# Altium footprint library SS8050-G.PcbLib: 3 footprints
Each footprint in its own frame and in the unit in brackets; x right, y up, seen from the top. Pads: shape width x height; smd on the part's side, far side on the other; paste and mask are expansions set on the pad; w line width, h text height; cw(c..) or ccw(c..) is an arc to the next point about the centre after c.
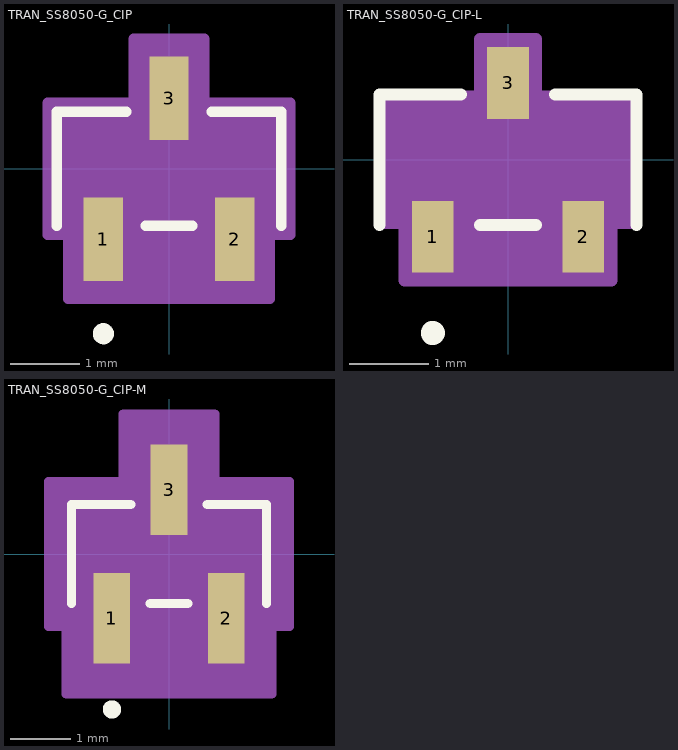
[diagram p0: the footprints below, top view; thin cyan lines are the x and y axes]

## TRAN_SS8050-G_CIP [mm]
pads (3):
  rect 0.568x1.208 smd paste+0 mask+0: 1(-0.95,-1.021) 2(0.95,-1.021) 3(0,1.021)
Top Overlay:
  circle w0.152: c-0.95,-2.387 r0.076
  lines w0.152: -1.626,-0.826 -1.626,0.826 -0.617,0.826 ; -0.333,-0.826 0.333,-0.826 ; 0.617,0.826 1.626,0.826 1.626,-0.826
  text ".Designator" at -3.492,-0.635 h1.27
Mechanical 13:
  circle w0.025: c-0.95,-0.445 r0.076
  lines w0.025: -1.499,-0.699 1.499,-0.699 1.499,0.699 -1.499,0.699 -1.499,-0.699 ; -1.204,-1.275 -1.204,-0.699 -0.696,-0.699 -0.696,-1.275 -1.204,-1.275 ; -0.254,0.699 0.254,0.699 0.254,1.275 -0.254,1.275 -0.254,0.699 ; 0.696,-1.275 0.696,-0.699 1.204,-0.699 1.204,-1.275 0.696,-1.275
  text ".Designator" at -3.492,-0.635 h1.27
Mechanical 15:
  region: -1.753,-0.953 -1.753,0.953 -0.508,0.953 -0.508,1.879 0.508,1.879 0.508,0.953 1.753,0.953 1.753,-0.953 1.458,-0.953 1.458,-1.879 -1.458,-1.879 -1.458,-0.953
  lines w0.152: -1.753,-0.953 -1.753,0.953 -0.508,0.953 -0.508,1.879 0.508,1.879 0.508,0.953 1.753,0.953 1.753,-0.953 1.458,-0.953 1.458,-1.879 -1.458,-1.879 -1.458,-0.953 -1.753,-0.953
3D body "TRAN_SS8050-G_CIP.step": height 1.04, standoff 0, extent -1.499,-1.275 1.499,1.275

## TRAN_SS8050-G_CIP-L [mm]
pads (3):
  rect 0.528x0.908 smd paste+0 mask+0: 1(-0.95,-0.971) 2(0.95,-0.971) 3(0,0.971)
Top Overlay:
  circle w0.152: c-0.95,-2.187 r0.076
  lines w0.152: -1.626,-0.826 -1.626,0.826 -0.597,0.826 ; -0.353,-0.826 0.353,-0.826 ; 0.597,0.826 1.626,0.826 1.626,-0.826
  text ".Designator" at -3.492,-0.635 h1.27
Mechanical 13:
  circle w0.025: c-0.95,-0.445 r0.076
  lines w0.025: -1.499,-0.699 1.499,-0.699 1.499,0.699 -1.499,0.699 -1.499,-0.699 ; -1.204,-1.275 -1.204,-0.699 -0.696,-0.699 -0.696,-1.275 -1.204,-1.275 ; -0.254,0.699 0.254,0.699 0.254,1.275 -0.254,1.275 -0.254,0.699 ; 0.696,-1.275 0.696,-0.699 1.204,-0.699 1.204,-1.275 0.696,-1.275
  text ".Designator" at -3.492,-0.635 h1.27
Mechanical 15:
  region: -1.6,-0.8 -1.6,0.8 -0.356,0.8 -0.356,1.527 0.356,1.527 0.356,0.8 1.6,0.8 1.6,-0.8 1.306,-0.8 1.306,-1.527 -1.306,-1.527 -1.306,-0.8
  lines w0.152: -1.6,-0.8 -1.6,0.8 -0.356,0.8 -0.356,1.527 0.356,1.527 0.356,0.8 1.6,0.8 1.6,-0.8 1.306,-0.8 1.306,-1.527 -1.306,-1.527 -1.306,-0.8 -1.6,-0.8
3D body "TRAN_SS8050-G_CIP.step": height 1.04, standoff 0, extent -1.499,-1.275 1.499,1.275

## TRAN_SS8050-G_CIP-M [mm]
pads (3):
  rect 0.608x1.508 smd paste+0 mask+0: 1(-0.95,-1.071) 2(0.95,-1.071) 3(0,1.071)
Top Overlay:
  circle w0.152: c-0.95,-2.587 r0.076
  lines w0.152: -1.626,-0.826 -1.626,0.826 -0.637,0.826 ; -0.313,-0.826 0.313,-0.826 ; 0.637,0.826 1.626,0.826 1.626,-0.826
  text ".Designator" at -3.492,-0.635 h1.27
Mechanical 13:
  circle w0.025: c-0.95,-0.445 r0.076
  lines w0.025: -1.499,-0.699 1.499,-0.699 1.499,0.699 -1.499,0.699 -1.499,-0.699 ; -1.204,-1.275 -1.204,-0.699 -0.696,-0.699 -0.696,-1.275 -1.204,-1.275 ; -0.254,0.699 0.254,0.699 0.254,1.275 -0.254,1.275 -0.254,0.699 ; 0.696,-1.275 0.696,-0.699 1.204,-0.699 1.204,-1.275 0.696,-1.275
  text ".Designator" at -3.492,-0.635 h1.27
Mechanical 15:
  region: -2.007,-1.206 -2.007,1.206 -0.762,1.206 -0.762,2.333 0.762,2.333 0.762,1.206 2.007,1.206 2.007,-1.206 1.712,-1.206 1.712,-2.333 -1.712,-2.333 -1.712,-1.206
  lines w0.152: -2.007,-1.206 -2.007,1.206 -0.762,1.206 -0.762,2.333 0.762,2.333 0.762,1.206 2.007,1.206 2.007,-1.206 1.712,-1.206 1.712,-2.333 -1.712,-2.333 -1.712,-1.206 -2.007,-1.206
3D body "TRAN_SS8050-G_CIP.step": height 1.04, standoff 0, extent -1.499,-1.275 1.499,1.275